# EAGLE library part D24V22F3 (library D24V22F3)
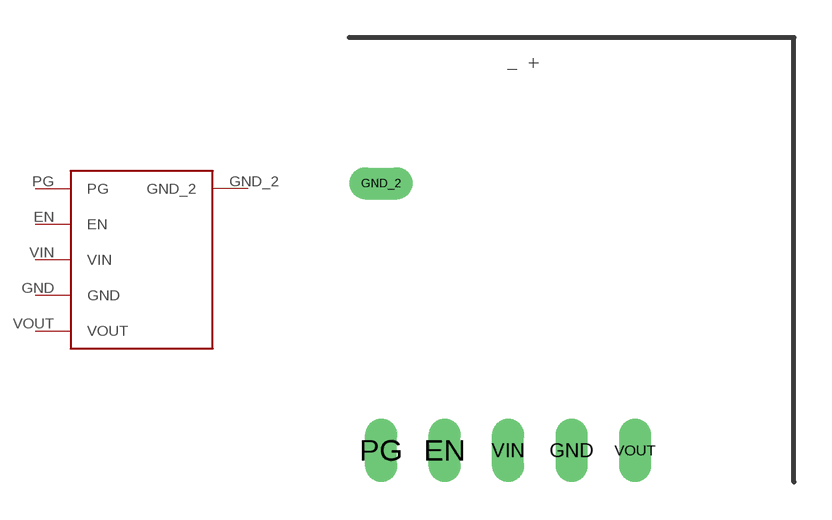
[diagram p0: symbol with the pads of D24V22F3; footprint D24V22F3]

Designator prefix -

## D24V22F3  [D24V22F3]
EN  EN
GND  GND
GND_2  GND_2
PG  PG
VIN  VIN
VOUT  VOUT

## Footprint D24V22F3 (pad centres in mm)
drill 0.6 pad 1.27 long: EN 3.81,1.27; GND 8.89,1.27; GND_2 1.27,11.938; PG 1.27,1.27; VIN 6.35,1.27; VOUT 11.43,1.27